# EAGLE library part 615006143221 (library Wurth_Elektronik_Electromechanic_Input-Output_Connectors_rev15c)
WR-MJ Horizontal Shielded 6P6C Modular Jack Tab Up, 6 pins=>Code : Con_I-O_MJ-H_Shielded_Up_615006143221 <http://katalog.we-online.de/media/images/eican/Con_I-O_MJ-H_Shielded_Up_615006143221_pf2.jpg> Details see: http://katalog.we-online.de/en/em/615_006_143_221 Created 2014-07-09, Karrer Zheng 2014 (C) Würth Elektronik
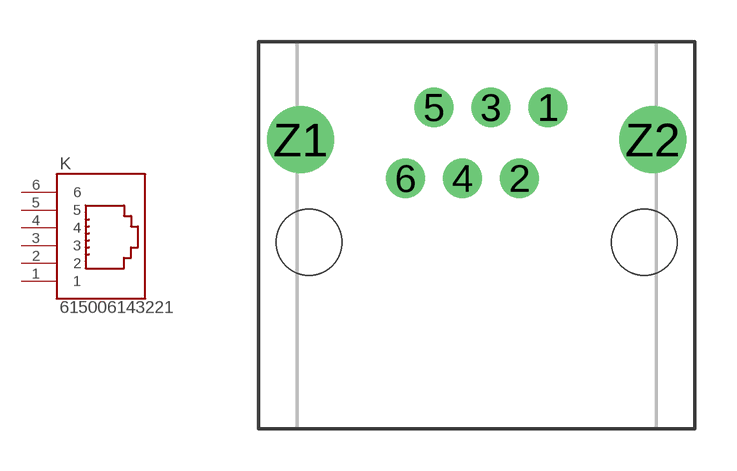
[diagram p103: symbol with the pads of 615006143221; footprint 615006143221]

Designator prefix K

## 615006143221  [615006143221]
1  1  pas
2  2  pas
3  3  pas
4  4  pas
5  5  pas
6  6  pas

## Footprint 615006143221 (pad centres in mm)
WR-MJ Horizontal Shielded 6P6C Modular Jack Tab Up, 6 pins
drill 0.9: 1 2.55,1.27; 2 1.53,-1.27; 3 0.51,1.27; 4 -0.51,-1.27; 5 -1.53,1.27; 6 -2.55,-1.27
drill 1.6: Z1 -6.3,0.11; Z2 6.3,0.11
hole 2.36 at -6,-3.57
hole 2.36 at 6,-3.57